# EAGLE library part 6PINCON_ISP (library TinyGadget)
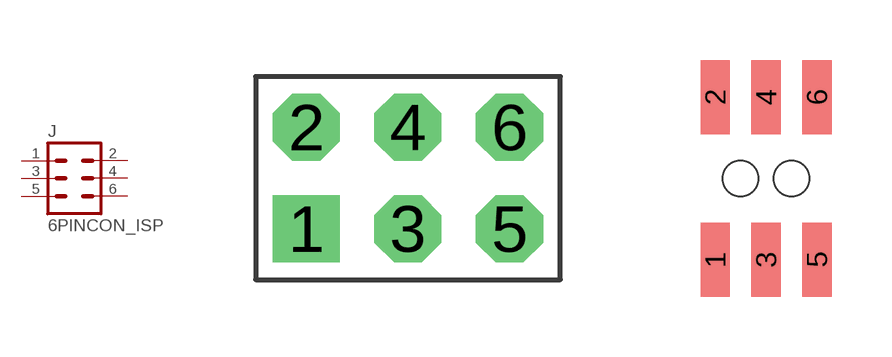
[diagram p0: symbol with the pads of 6P2R0.1IN; footprints 6P2R0.1IN, SM6PIN]

Designator prefix J

## 6PINCON_ISPTH_6PIN  [6P2R0.1IN]
1  1
2  2
3  3
4  4
5  5
6  6

## 6PINCON_ISPSM_6PIN  [SM6PIN]
Pads as for 6P2R0.1IN

## Footprint 6P2R0.1IN (pad centres in mm)
drill 1.016 pad 1.676 square: 1 0,0
drill 1.016 pad 1.676 octagon: 2 0,2.54; 3 2.54,0; 4 2.54,2.54; 5 5.08,0; 6 5.08,2.54

## Footprint SM6PIN (pad centres in mm)
smd 0.737 x 1.854: 1 0,-1.27; 2 0,2.794; 3 1.27,-1.27; 4 1.27,2.794; 5 2.54,-1.27; 6 2.54,2.794
hole 0.889 at 0.635,0.762
hole 0.889 at 1.905,0.762